# EAGLE library part MAX6070BAUT21+T (library open_covg)
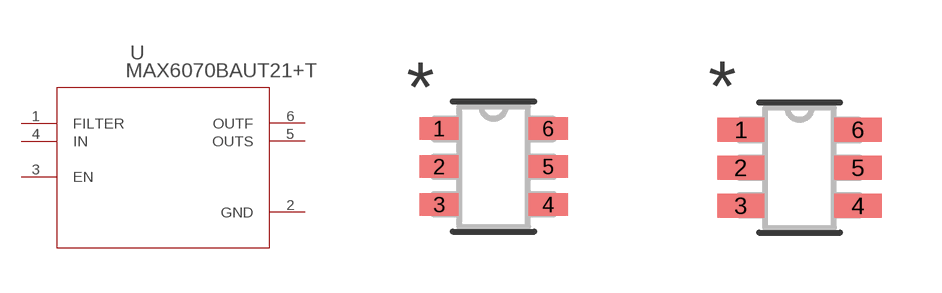
[diagram p18: symbol with the pads of 21-0058I_MXM; footprints 21-0058I_MXM, 21-0058I_MXM-M]

Designator prefix U

## MAX6070BAUT21+T (BUILT_BY: EMA_UL_Team; MANUFACTURER_PART_NUMBER: MAX6070BAUT21+T; SOURCELIBRARY: Maxim_2014-05-21; VENDOR: Maxim Integrated Products)  [21-0058I_MXM]
1  FILTER  in
2  GND  pwr
3  EN
4  IN  in
5  OUTS
6  OUTF  out

## MAX6070BAUT21+T21-0058I_MXM-M (BUILT_BY: EMA_UL_Team; MANUFACTURER_PART_NUMBER: MAX6070BAUT21+T; SOURCELIBRARY: Maxim_2014-05-21; VENDOR: Maxim Integrated Products)  [21-0058I_MXM-M]
Pads as for 21-0058I_MXM

## MAX6070BAUT21+T21-0058I_MXM-L (BUILT_BY: EMA_UL_Team; MANUFACTURER_PART_NUMBER: MAX6070BAUT21+T; SOURCELIBRARY: Maxim_2014-05-21; VENDOR: Maxim Integrated Products)  [21-0058I_MXM-L]
Pads as for 21-0058I_MXM

## Footprint 21-0058I_MXM (pad centres in mm)
smd 0.978 x 0.559: 1 -1.365,0.95; 2 -1.365,0; 3 -1.365,-0.95; 4 1.365,-0.95; 5 1.365,0; 6 1.365,0.95

## Footprint 21-0058I_MXM-M (pad centres in mm)
smd 1.181 x 0.61: 1 -1.467,0.95; 2 -1.467,0; 3 -1.467,-0.95; 4 1.467,-0.95; 5 1.467,0; 6 1.467,0.95

## Footprint 21-0058I_MXM-L (pad centres in mm)
smd 0.775 x 0.508: 1 -1.264,0.95; 2 -1.264,0; 3 -1.264,-0.95; 4 1.264,-0.95; 5 1.264,0; 6 1.264,0.95